# EAGLE library part STM32U575RGT3 (library STM32U575RGT3)
Ultra-low-power Arm Cortex-M33 32-bit MCU+TrustZone+FPU, 240 DMIPS, up to 2 MB Flash memory, 786 KB SRAM Source: Datasheet <https://www.st.com/resource/en/datasheet/stm32u575ag.pdf>
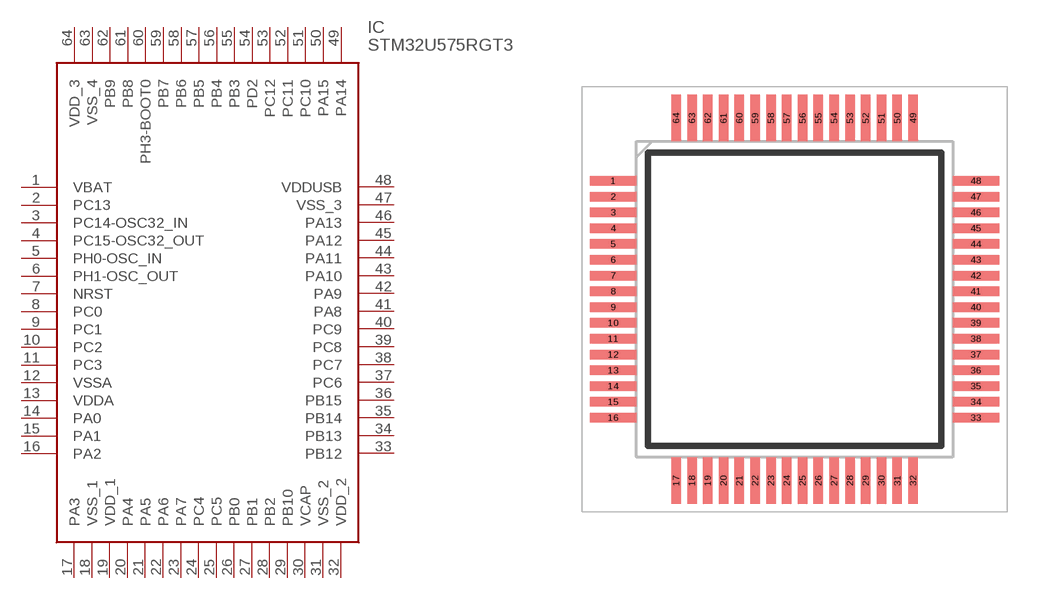
[diagram p0: symbol with the pads of QFP50P1200X1200X160-64N; footprint QFP50P1200X1200X160-64N]

Designator prefix IC

## STM32U575RGT3 (Description: Ultra-low-power Arm Cortex-M33 32-bit MCU+TrustZone+FPU, 240 DMIPS, up to 2 MB Flash memory, 786 KB SRAM; Height: 1.6mm; Manufacturer_Name: STMicroelectronics; Manufacturer_Part_Number: STM32U575RGT3)  [QFP50P1200X1200X160-64N]
1  VBAT
2  PC13
3  PC14-OSC32_IN
4  PC15-OSC32_OUT
5  PH0-OSC_IN
6  PH1-OSC_OUT
7  NRST
8  PC0
9  PC1
10  PC2
11  PC3
12  VSSA
13  VDDA
14  PA0
15  PA1
16  PA2
17  PA3
18  VSS_1
19  VDD_1
20  PA4
21  PA5
22  PA6
23  PA7
24  PC4
25  PC5
26  PB0
27  PB1
28  PB2
29  PB10
30  VCAP
31  VSS_2
32  VDD_2
33  PB12
34  PB13
35  PB14
36  PB15
37  PC6
38  PC7
39  PC8
40  PC9
41  PA8
42  PA9
43  PA10
44  PA11
45  PA12
46  PA13
47  VSS_3
48  VDDUSB
49  PA14
50  PA15
51  PC10
52  PC11
53  PC12
54  PD2
55  PB3
56  PB4
57  PB5
58  PB6
59  PB7
60  PH3-BOOT0
61  PB8
62  PB9
63  VSS_4
64  VDD_3

## Footprint QFP50P1200X1200X160-64N (pad centres in mm)
LQFP64_2025
smd 1.475 x 0.3: 1 -5.738,3.75; 2 -5.738,3.25; 3 -5.738,2.75; 4 -5.738,2.25; 5 -5.738,1.75; 6 -5.738,1.25; 7 -5.738,0.75; 8 -5.738,0.25; 9 -5.738,-0.25; 10 -5.738,-0.75; 11 -5.738,-1.25; 12 -5.738,-1.75; 13 -5.738,-2.25; 14 -5.738,-2.75; 15 -5.738,-3.25; 16 -5.738,-3.75; 33 5.738,-3.75; 34 5.738,-3.25; 35 5.738,-2.75; 36 5.738,-2.25; 37 5.738,-1.75; 38 5.738,-1.25; 39 5.738,-0.75; 40 5.738,-0.25; 41 5.738,0.25; 42 5.738,0.75; 43 5.738,1.25; 44 5.738,1.75; 45 5.738,2.25; 46 5.738,2.75; 47 5.738,3.25; 48 5.738,3.75
smd 0.3 x 1.475: 17 -3.75,-5.738; 18 -3.25,-5.738; 19 -2.75,-5.738; 20 -2.25,-5.738; 21 -1.75,-5.738; 22 -1.25,-5.738; 23 -0.75,-5.738; 24 -0.25,-5.738; 25 0.25,-5.738; 26 0.75,-5.738; 27 1.25,-5.738; 28 1.75,-5.738; 29 2.25,-5.738; 30 2.75,-5.738; 31 3.25,-5.738; 32 3.75,-5.738; 49 3.75,5.738; 50 3.25,5.738; 51 2.75,5.738; 52 2.25,5.738; 53 1.75,5.738; 54 1.25,5.738; 55 0.75,5.738; 56 0.25,5.738; 57 -0.25,5.738; 58 -0.75,5.738; 59 -1.25,5.738; 60 -1.75,5.738; 61 -2.25,5.738; 62 -2.75,5.738; 63 -3.25,5.738; 64 -3.75,5.738